# EAGLE library part TFT-BREAKOUT (library KVB-connectors)
Breakeout: 1.8" TFT Display Breakout and Shield Screen: 128x160 pixels in 18 bit color with a microSD Connector: 10 Position Header Connector 0.100" (2.54mm) Through Hole Tin
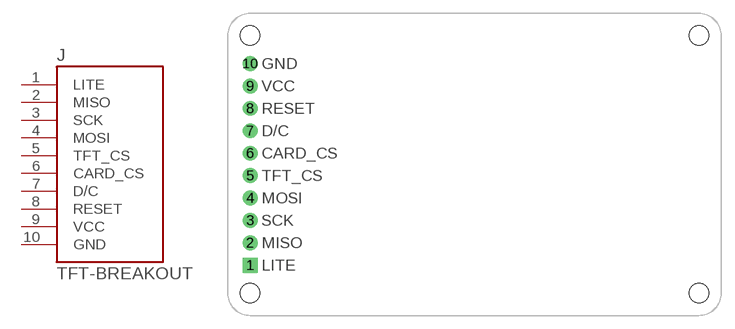
[diagram p27: symbol with the pads of TFT-BREAKOUT; footprint TFT-BREAKOUT]

Designator prefix J

## TFT-BREAKOUT (MAN-PART_NUM: PPTC101LFBN-RC; MANUFACTURER: Sullins)  [TFT-BREAKOUT]
1  LITE
2  MISO
3  SCK
4  MOSI
5  TFT_CS
6  CARD_CS
7  D/C
8  RESET
9  VCC
10  GND

## Footprint TFT-BREAKOUT (pad centres in mm)
drill 1.118 pad 1.676 square: 1 -25.4,-11.43
drill 1.118 pad 1.676: 2 -25.4,-8.89; 3 -25.4,-6.35; 4 -25.4,-3.81; 5 -25.4,-1.27; 6 -25.4,1.27; 7 -25.4,3.81; 8 -25.4,6.35; 9 -25.4,8.89; 10 -25.4,11.43
hole 2.2 at -25.4,14.605
hole 2.2 at -25.4,-14.605
hole 2.2 at 25.4,-14.605
hole 2.2 at 25.4,14.605